# Altium schematic symbol library FFCConnectors.SchLib: 4 symbols
Pins are listed as number, name and electrical type; pins without a type are passive.

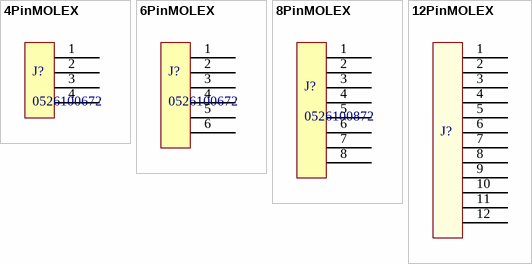
[diagram p0: symbols 4PinMOLEX to 12PinMOLEX]

## 4PinMOLEX
designator J?, comment 0526100672
footprint 522710479 (Easy-On FFC/FPC Connector, 1.00mm Pitch, Slider Series, Right-Angle, Bottom Contact, 3.00mm Height, 6 Circuits, Tin-Bismuth Plating)
pins: 1 0, 2 1, 3 2, 4 3

## 6PinMOLEX
designator J?, comment 0526100672
footprint 522710679 (Easy-On FFC/FPC Connector, 1.00mm Pitch, Slider Series, Right-Angle, Bottom Contact, 3.00mm Height, 6 Circuits, Tin-Bismuth Plating)
footprint 526100672 (Easy-On FFC/FPC Connector, 1.00mm Pitch, Slider Series, Vertical, 5.75mm Height, 6 Circuits, Gold Plating)
pins: 1 0, 2 1, 3 2, 4 3, 5 4, 6 5

## 8PinMOLEX
designator J?, comment 0526100872
footprint 522710879 (Easy-On FFC/FPC Connector, 1.00mm Pitch, Slider Series, Right-Angle, Bottom Contact, 3.00mm Height, 6 Circuits, Tin-Bismuth Plating)
footprint 526100872 (Easy-On FFC/FPC Connector, 1.00mm Pitch, Slider Series, Vertical, 5.75mm Height, 6 Circuits, Gold Plating)
pins: 1 0, 2 1, 3 2, 4 3, 5 4, 6 5, 7, 8

## 12PinMOLEX
designator J?
footprint 526101272 (Easy-On FFC/FPC Connector, 1.00mm Pitch, Slider Series, Vertical, 5.75mm Height, 12 Circuits, Gold Plating)
pins: 1, 2, 3, 4, 5, 6, 7, 8, 9, 10, 11, 12